# Altium schematic symbol library BAT68-06.SchLib: 1 symbol
Pins are listed as number, name and electrical type; pins without a type are passive.

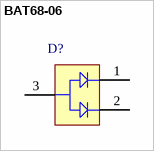
[diagram p0: symbol BAT68-06]

## BAT68-06
designator D?
Dual Silicon Schottky Diode, 130 mA IF Max, PG-SOT23-3, Green; Manufacturer: Infineon; PartNumber: BAT68-06; CT (typ): 0.75 pF; Green: yes; Group: RF Signal Detection + Power Leveling; IF (max): 130 mA; VF (typ): 0.318 V; VR (max): 8 V; DatasheetVersion: Jun-2011; PackageReference: PG-SOT23-3; PackageDescription: 3-Pin Small Outline Transistor Package, 1.25 x 2 mm Body, 0.65 mm Pitch; Supplier 1: Mouser; Supplier Part Number 1: N/A; Configuration: Dual; Mounting Technology: Surface Mount; ComponentLink1Description: Manufacturer URL; ComponentLink1URL: http://www.infineon.com/; ComponentLink2Description: Datasheet; ComponentLink2URL: http://www.infineon.com/dgdl/bat68series.pdf?folderId=db3a304314dca389011518104e5d0df2&fileId=db3a304314dca38901151819a1ab0df5&location=en.Products.RF.RF_Mixer___Detector_Schottky_Diodes.DATASHEET.bat68series.pdf; ComponentLink3Description: Package Specification; ComponentLink3URL: http://www.infineon.com/dgdl/SOT323-Package_Overview.pdf?folderId=db3a30431936bc4b0119533e1dcb3c92&fileId=db3a30431936bc4b011953495f283cb1
footprint INF-PG-SOT23-3_N (SOT23, 3-Leads, Body 2x1.25 mm, Pitch 0.65 mm, IPC Medium Density)
footprint INF-PG-SOT23-3_L (SOT23, 3-Leads, Body 2x1.25 mm, Pitch 0.65 mm, IPC High Density)
footprint INF-PG-SOT23-3_M (SOT23, 3-Leads, Body 2x1.25 mm, Pitch 0.65 mm, IPC Low Density)
pins: 1 K1, 2 K2, 3 A